# Altium footprint library HDC2010YPAR.PcbLib: 4 footprints
Each footprint in its own frame and in the unit in brackets; x right, y up, seen from the top. Pads: shape width x height; smd on the part's side, far side on the other; paste and mask are expansions set on the pad; w line width, h text height; cw(c..) or ccw(c..) is an arc to the next point about the centre after c.
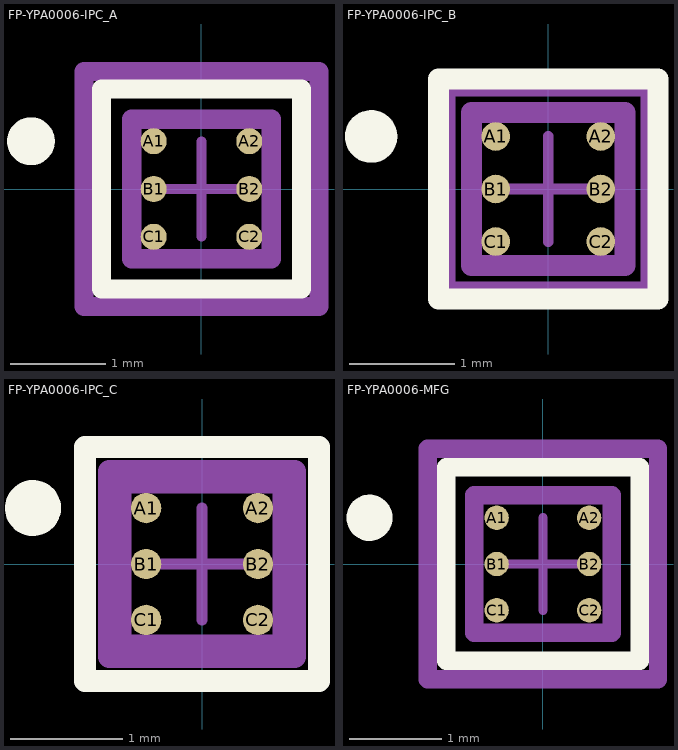
[diagram p0: the footprints below, top view; thin cyan lines are the x and y axes]

## FP-YPA0006-IPC_A [mm]
pads (6):
  round 0.272 smd paste+0 mask+0: A1(-0.5,0.5) A2(0.5,0.5) B1(-0.5,0) B2(0.5,0) C1(-0.5,-0.5) C2(0.5,-0.5)
Top Overlay:
  circle w0.25: c-1.785,0.5 r0.125
  lines w0.2: -1.045,-1.045 1.045,-1.045 1.045,1.045 -1.045,1.045 -1.045,-1.045
Top Assembly:
  lines w0.2: -1.23,-1.23 1.23,-1.23 1.23,1.23 -1.23,1.23 -1.23,-1.23
  text ".Designator" at 0,0.188 h1
Top 3D Body:
  lines w0.2: -0.73,-0.73 0.73,-0.73 0.73,0.73 -0.73,0.73 -0.73,-0.73
Top Courtyard:
  lines w0.2: -1.23,-1.23 1.23,-1.23 1.23,1.23 -1.23,1.23 -1.23,-1.23
Top Component Center:
  lines w0.1: -0.5,0 0.5,0 ; 0,-0.5 0,0.5
3D body "IC_Texas_Instruments_HDC2010YPAR_eec.STEP": height 0.25, standoff 0, extent -1.23,-1.23 1.23,1.23

## FP-YPA0006-IPC_B [mm]
pads (6):
  round 0.272 smd paste+0 mask+0: A1(-0.5,0.5) A2(0.5,0.5) B1(-0.5,0) B2(0.5,0) C1(-0.5,-0.5) C2(0.5,-0.5)
Top Overlay:
  circle w0.25: c-1.685,0.5 r0.125
  lines w0.2: -1.045,-1.045 1.045,-1.045 1.045,1.045 -1.045,1.045 -1.045,-1.045
Top Assembly:
  lines w0.2: -0.98,-0.98 0.98,-0.98 0.98,0.98 -0.98,0.98 -0.98,-0.98
  text ".Designator" at 0,0.188 h1
Top 3D Body:
  lines w0.2: -0.73,-0.73 0.73,-0.73 0.73,0.73 -0.73,0.73 -0.73,-0.73
Top Courtyard:
  lines w0.2: -0.98,-0.98 0.98,-0.98 0.98,0.98 -0.98,0.98 -0.98,-0.98
Top Component Center:
  lines w0.1: -0.5,0 0.5,0 ; 0,-0.5 0,0.5
3D body "IC_Texas_Instruments_HDC2010YPAR_eec.STEP": height 0.25, standoff 0, extent -0.98,-0.98 0.98,0.98

## FP-YPA0006-IPC_C [mm]
pads (6):
  round 0.272 smd paste+0 mask+0: A1(-0.5,0.5) A2(0.5,0.5) B1(-0.5,0) B2(0.5,0) C1(-0.5,-0.5) C2(0.5,-0.5)
Top Overlay:
  circle w0.25: c-1.51,0.5 r0.125
  lines w0.2: -1.045,-1.045 1.045,-1.045 1.045,1.045 -1.045,1.045 -1.045,-1.045
Top Assembly:
  lines w0.2: -0.83,-0.83 0.83,-0.83 0.83,0.83 -0.83,0.83 -0.83,-0.83
  text ".Designator" at 0,0.188 h1
Top 3D Body:
  lines w0.2: -0.73,-0.73 0.73,-0.73 0.73,0.73 -0.73,0.73 -0.73,-0.73
Top Courtyard:
  lines w0.2: -0.83,-0.83 0.83,-0.83 0.83,0.83 -0.83,0.83 -0.83,-0.83
Top Component Center:
  lines w0.1: -0.5,0 0.5,0 ; 0,-0.5 0,0.5
3D body "IC_Texas_Instruments_HDC2010YPAR_eec.STEP": height 0.25, standoff 0, extent -0.83,-0.83 0.83,0.83

## FP-YPA0006-MFG [mm]
pads (6):
  round 0.263 smd paste-1000 mask-1000: A1(-0.5,0.5) A2(0.5,0.5) B1(-0.5,0) B2(0.5,0) C1(-0.5,-0.5) C2(0.5,-0.5)
Top Overlay:
  circle w0.25: c-1.875,0.5 r0.125
  lines w0.2: -1.045,-1.045 1.045,-1.045 1.045,1.045 -1.045,1.045 -1.045,-1.045
Top Paste:
  drawing of 6 lines, arcs and shapes, not listed
Top Solder:
  circle w0.182: c-0.5,-0.5 r0.091
  circle w0.182: c0.5,-0.5 r0.091
  circle w0.182: c-0.5,0.5 r0.091
  circle w0.182: c0.5,0.5 r0.091
  circle w0.182: c-0.5,0 r0.091
  circle w0.182: c0.5,0 r0.091
Top Assembly:
  lines w0.2: -1.245,-1.245 1.245,-1.245 1.245,1.245 -1.245,1.245 -1.245,-1.245
  text ".Designator" at 0,0.188 h1
Top 3D Body:
  lines w0.2: -0.745,-0.745 0.745,-0.745 0.745,0.745 -0.745,0.745 -0.745,-0.745
Top Courtyard:
  lines w0.2: -1.245,-1.245 1.245,-1.245 1.245,1.245 -1.245,1.245 -1.245,-1.245
Top Component Center:
  lines w0.1: -0.5,0 0.5,0 ; 0,-0.5 0,0.5
3D body "IC_Texas_Instruments_HDC2010YPAR_eec.STEP": height 0.25, standoff 0, extent -1.245,-1.245 1.245,1.245